# Altium footprint library Резонаторы_.PcbLib: 6 footprints
Each footprint in its own frame and in the unit in brackets; x right, y up, seen from the top. Pads: shape width x height; smd on the part's side, far side on the other; paste and mask are expansions set on the pad; w line width, h text height; cw(c..) or ccw(c..) is an arc to the next point about the centre after c.
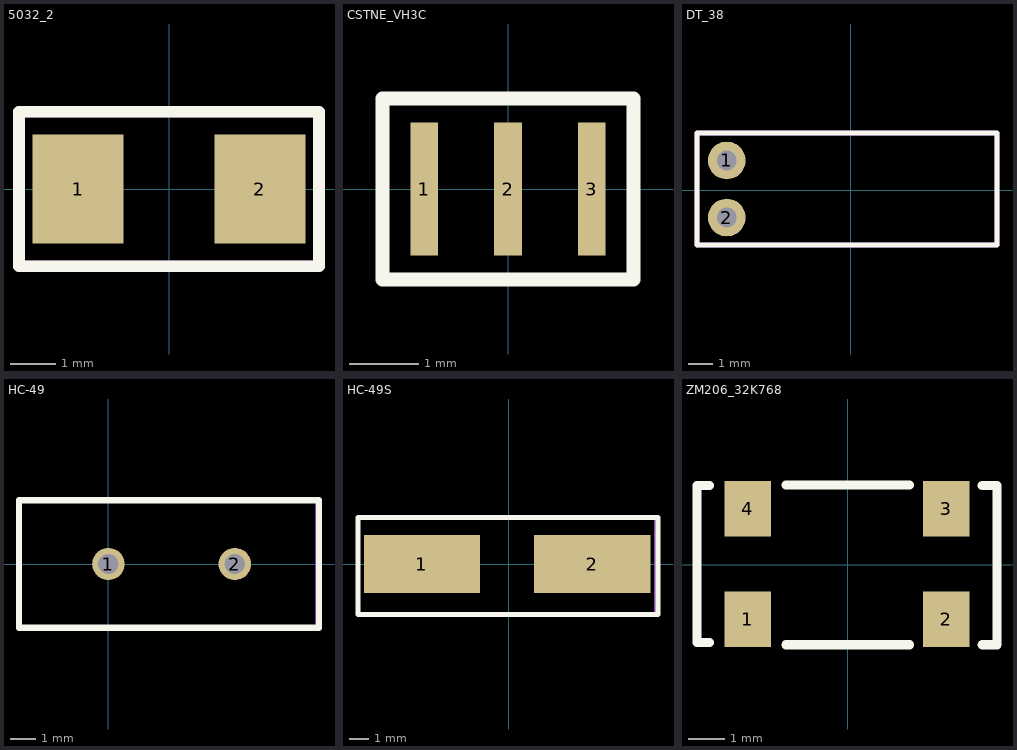
[diagram p0: the footprints below, top view; thin cyan lines are the x and y axes]

## 5032_2 [mm]
pads (2):
  rect 2x2.4 smd: 1(-2,0) 2(2,0)
Top Overlay:
  lines w0.254: -3.3,-1.7 -3.3,1.7 3.3,1.7 3.3,-1.7 -3.3,-1.7
Top_assy:
  lines w0.254: -3.3,-1.7 3.3,-1.7 3.3,1.7 -3.3,1.7 -3.3,-1.7
  text ".Designator" at -2.7,-0.5 h1.52
3D body "User Library-5032_2.step": height 1.2, standoff -0.01, extent -2.4,-1.6 2.6,1.6
3D body: height 7.81, standoff -7.26, extent -0.7,-1 -0.7,-1
3D body: height 7.81, standoff -7.26, extent 0,0 0,0

## CSTNE_VH3C [mm]
pads (3):
  rect 0.4x1.9 smd: 1(-1.2,0) 2(0,0) 3(1.2,0)
Top Overlay:
  lines w0.2: -1.8,-1.3 1.8,-1.3 1.8,1.3 -1.8,1.3 -1.8,-1.3

## DT_38 [mm]
pads (2):
  round 1.524 hole 0.8: 1(-5,1.2) 2(-5,-1.1)
Top Overlay:
  lines w0.2: -6.2,-2.2 5.9,-2.2 5.9,2.3 -6.2,2.3 -6.2,-2.2
Top_assy:
  lines w0.2: -6.2,-2.2 -6.2,2.3 5.9,2.3 5.9,-2.2 -6.2,-2.2
  text ".Designator" at -2.6,0.1 h1.52
3D body "DT-38.STEP": height 3, standoff -0.45, extent -5.208,-1.4 5.808,1.6

## HC-49 [mm]
pads (2):
  round 1.27 hole 0.8: 1(0,0) 2(4.953,0)
Top Overlay:
  lines w0.254: -3.5,-2.5 8.25,-2.5 8.25,2.5 -3.5,2.5 -3.5,-2.5
Top_assy:
  lines w0.2: -3.5,-2.5 8.2,-2.5 8.2,2.5 -3.5,2.5 -3.5,-2.5
  text ".Designator" at -0.7,-0.3 h1.52
3D body "Rezonator-HC-49us.STEP": height 3.5, standoff -3, extent -3.337,-2.325 8.163,2.325

## HC-49S [mm]
pads (2):
  rect 6x3 smd: 1(-4.5,0) 2(4.3,0)
Top Overlay:
  lines w0.254: -7.8,-2.6 -7.8,2.4 7.7,2.4 7.7,-2.6 -7.8,-2.6
Top_assy:
  lines w0.2: -7.8,-2.6 -7.8,2.4 7.6,2.4 7.6,-2.6 -7.8,-2.6
  text ".Designator" at -3.1,-0.4 h1.52
3D body "Rezonator-HC49-SMD.STEP": height 5.1, standoff 0, extent -7.5,-2.25 7.5,2.25

## ZM206_32K768 [mm]
pads (4):
  rect 1.27x1.524 smd: 1(-2.75,-1.5) 2(2.711,-1.5) 3(2.711,1.548) 4(-2.75,1.548)
Top Overlay:
  lines w0.254: -3.8,-2.135 -4.147,-2.135 -4.147,2.183 -3.8,2.183 ; -1.7,-2.2 1.7,-2.2 ; -1.7,2.2 1.7,2.2 ; 3.7,-2.2 4.108,-2.2 4.108,2.183 3.7,2.183
3D body "ZM206_32k768MHz.STEP": height 2.43, standoff -0.1, extent -4.02,-1.871 3.98,1.929